# Altium integrated library NSC ADC.IntLib: 493 symbols (part 16 of 17)
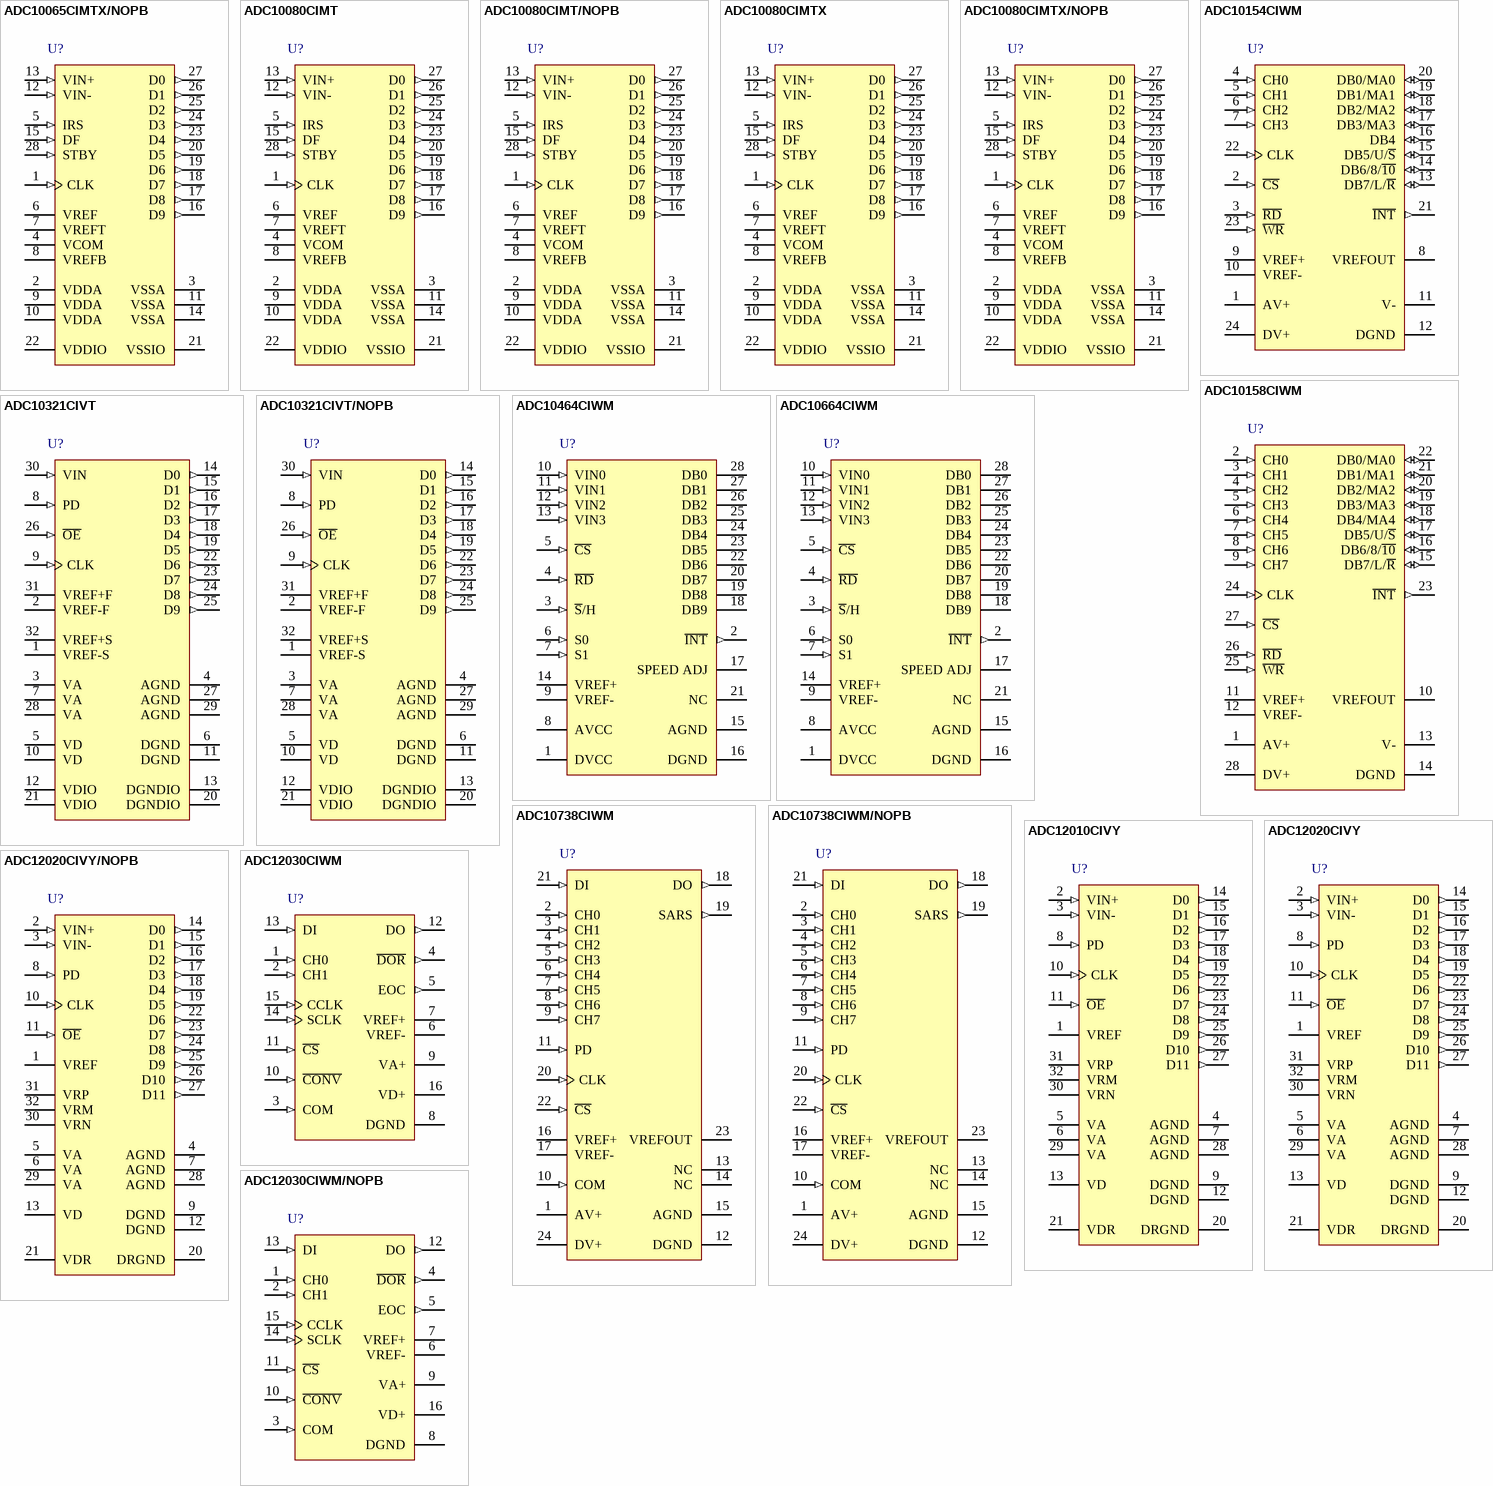
[diagram p51: symbols ADC10065CIMTX/NOPB to ADC12030CIWM/NOPB]

## ADC10738CIWM/NOPB
designator U?
10-Bit Plus Sign Serial I/O A/D Converters with Mux, Sample/Hold and Reference, 24-pin Wide SOIC, Pb-Free; PartNumber: ADC10738CIWM/NOPB; Manufacturer: National Semiconductor; PackageTopMarking: NSUZXYTTE#*ADC10738*CIWM; PowerWise: N; CompType: ADC IC; Published: 1-Mar-2010; DatasheetVersion: Mar-1993; PackageVersion: revF, Apr-1990; PackageReference: M24B; Publisher: Altium Limited; PackageDescription: Molded Package, S.O., .300in Wide, 24 Lead; Supplier 1: Digi-Key; Supplier Part Number 1: ADC10738CIWM-ND; RoHS: Y; PinCount: 24; ComponentLink1Description: ADC10738 Datasheet; ComponentLink1URL: http://www.national.com/ds/AD/ADC10738.pdf; ComponentLink2Description: ADC10738 Web Page; ComponentLink2URL: http://www.national.com/pf/AD/ADC10738.html; ComponentLink3Description: M24B Package Page; ComponentLink3URL: http://www.national.com/packaging/folders/m24b.html
footprint M24B_N (SOIC, 24-Leads, Body 15.4x7.5mm, Pitch 1.27mm, IPC Medium Density)
footprint M24B_L (SOIC, 24-Leads, Body 15.4x7.5mm, Pitch 1.27mm, IPC High Density)
footprint M24B_M (SOIC, 24-Leads, Body 15.4x7.5mm, Pitch 1.27mm, IPC Low Density)
pins: 1 AV+ (power), 2 CH0 (in), 3 CH1 (in), 4 CH2 (in), 5 CH3 (in), 6 CH4 (in), 7 CH5 (in), 8 CH6 (in), 9 CH7 (in), 10 COM (in), 11 PD (in), 12 DGND (power), 13 NC, 14 NC, 15 AGND (power), 16 VREF+ (power), 17 VREF- (power), 18 DO (out), 19 SARS (out), 20 CLK (in), 21 DI (in), 22 ~{CS} (in), 23 VREFOUT (power), 24 DV+ (power)

## ADC12010CIVY
designator U?
12-Bit, 10 MSPS, 160mW A/D Converter with Internal Sample-and-Hold, 32-pin LQFP; PartNumber: ADC12010CIVY; Manufacturer: National Semiconductor; PackageTopMarking: NSUZXYTT*ADC12010*CIVY; PowerWise: N; CompType: ADC IC; Published: 4-Dec-2008; DatasheetVersion: Jul-2008; PackageVersion: revE, Dec-1999; PackageReference: VBE32A; Publisher: Altium Limited; PackageDescription: LQFP, JEDEC, Metric, 7 x 7 x 1.4mm, 32 Lead; Supplier 1: Farnell; Supplier Part Number 1: 1286728; RoHS: N; PinCount: 32; ComponentLink1Description: ADC12010 Datasheet; ComponentLink1URL: http://www.national.com/ds/AD/ADC12010.pdf; ComponentLink2Description: ADC12010 Web Page; ComponentLink2URL: http://www.national.com/pf/AD/ADC12010.html; ComponentLink3Description: VBE32A Package Page; ComponentLink3URL: http://www.national.com/packaging/folders/vbe32a.html
footprint VBE32A_N (Thin QFP, 32-Leads, Body 7x7mm, Pitch 0.8mm, IPC Medium Density)
footprint VBE32A_L (Thin QFP, 32-Leads, Body 7x7mm, Pitch 0.8mm, IPC High Density)
footprint VBE32A_M (Thin QFP, 32-Leads, Body 7x7mm, Pitch 0.8mm, IPC Low Density)
pins: 1 VREF (power), 2 VIN+ (in), 3 VIN- (in), 4 AGND (power), 5 VA (power), 6 VA (power), 7 AGND (power), 8 PD (in), 9 DGND (power), 10 CLK (in), 11 ~{OE} (in), 12 DGND (power), 13 VD (power), 14 D0 (out), 15 D1 (out), 16 D2 (out), 17 D3 (out), 18 D4 (out), 19 D5 (out), 20 DRGND (power), 21 VDR (power), 22 D6 (out), 23 D7 (out), 24 D8 (out), 25 D9 (out), 26 D10 (out), 27 D11 (out), 28 AGND (power), 29 VA (power), 30 VRN, 31 VRP, 32 VRM

## ADC12020CIVY
designator U?
12-Bit, 20 MSPS, 185mW A/D Converter with Internal Sample-and-Hold, 32-pin LQFP; PartNumber: ADC12020CIVY; Manufacturer: National Semiconductor; PackageTopMarking: NSUZXYTT*ADC12020*CIVY; PowerWise: N; CompType: ADC IC; Published: 4-Dec-2008; DatasheetVersion: Jul-2008; PackageVersion: revE, Dec-1999; PackageReference: VBE32A; Publisher: Altium Limited; PackageDescription: LQFP, JEDEC, Metric, 7 x 7 x 1.4mm, 32 Lead; Supplier 1: Digi-Key; Supplier Part Number 1: ADC12020CIVY-ND; Supplier 2: Farnell; Supplier Part Number 2: 1286731; RoHS: N; PinCount: 32; ComponentLink1Description: ADC12020 Datasheet; ComponentLink1URL: http://www.national.com/ds/AD/ADC12020.pdf; ComponentLink2Description: ADC12020 Web Page; ComponentLink2URL: http://www.national.com/pf/AD/ADC12020.html; ComponentLink3Description: VBE32A Package Page; ComponentLink3URL: http://www.national.com/packaging/folders/vbe32a.html
footprint VBE32A_N (Thin QFP, 32-Leads, Body 7x7mm, Pitch 0.8mm, IPC Medium Density)
footprint VBE32A_L (Thin QFP, 32-Leads, Body 7x7mm, Pitch 0.8mm, IPC High Density)
footprint VBE32A_M (Thin QFP, 32-Leads, Body 7x7mm, Pitch 0.8mm, IPC Low Density)
pins: 1 VREF (power), 2 VIN+ (in), 3 VIN- (in), 4 AGND (power), 5 VA (power), 6 VA (power), 7 AGND (power), 8 PD (in), 9 DGND (power), 10 CLK (in), 11 ~{OE} (in), 12 DGND (power), 13 VD (power), 14 D0 (out), 15 D1 (out), 16 D2 (out), 17 D3 (out), 18 D4 (out), 19 D5 (out), 20 DRGND (power), 21 VDR (power), 22 D6 (out), 23 D7 (out), 24 D8 (out), 25 D9 (out), 26 D10 (out), 27 D11 (out), 28 AGND (power), 29 VA (power), 30 VRN, 31 VRP, 32 VRM

## ADC12020CIVY/NOPB
designator U?
12-Bit, 20 MSPS, 185mW A/D Converter with Internal Sample-and-Hold, 32-pin LQFP, Pb-Free; PartNumber: ADC12020CIVY/NOPB; Manufacturer: National Semiconductor; PackageTopMarking: NSUZXYTT*ADC12020*CIVY; PowerWise: N; CompType: ADC IC; Published: 1-Mar-2010; DatasheetVersion: Jul-2008; PackageVersion: revE, Dec-1999; PackageReference: VBE32A; Publisher: Altium Limited; PackageDescription: LQFP, JEDEC, Metric, 7 x 7 x 1.4mm, 32 Lead; Supplier 1: Digi-Key; Supplier Part Number 1: ADC12020CIVY/NOPB-ND; RoHS: Y; PinCount: 32; ComponentLink1Description: ADC12020 Datasheet; ComponentLink1URL: http://www.national.com/ds/AD/ADC12020.pdf; ComponentLink2Description: ADC12020 Web Page; ComponentLink2URL: http://www.national.com/pf/AD/ADC12020.html; ComponentLink3Description: VBE32A Package Page; ComponentLink3URL: http://www.national.com/packaging/folders/vbe32a.html
footprint VBE32A_N (Thin QFP, 32-Leads, Body 7x7mm, Pitch 0.8mm, IPC Medium Density)
footprint VBE32A_L (Thin QFP, 32-Leads, Body 7x7mm, Pitch 0.8mm, IPC High Density)
footprint VBE32A_M (Thin QFP, 32-Leads, Body 7x7mm, Pitch 0.8mm, IPC Low Density)
pins: 1 VREF (power), 2 VIN+ (in), 3 VIN- (in), 4 AGND (power), 5 VA (power), 6 VA (power), 7 AGND (power), 8 PD (in), 9 DGND (power), 10 CLK (in), 11 ~{OE} (in), 12 DGND (power), 13 VD (power), 14 D0 (out), 15 D1 (out), 16 D2 (out), 17 D3 (out), 18 D4 (out), 19 D5 (out), 20 DRGND (power), 21 VDR (power), 22 D6 (out), 23 D7 (out), 24 D8 (out), 25 D9 (out), 26 D10 (out), 27 D11 (out), 28 AGND (power), 29 VA (power), 30 VRN, 31 VRP, 32 VRM

## ADC12030CIWM
designator U?
Self-Calibrating 12-Bit Plus Sign Serial I/O A/D Converters with MUX and Sample/Hold, 16-pin Wide SOIC; PartNumber: ADC12030CIWM; Manufacturer: National Semiconductor; PackageTopMarking: NSUZXYTTE#*ADC12030*CIWM; PowerWise: N; CompType: ADC IC; Published: 4-Dec-2008; DatasheetVersion: Sep-2008; PackageVersion: revF, Apr-1990; PackageReference: M16B; Publisher: Altium Limited; PackageDescription: Molded Package, S.O., .300in Wide, 16 Lead; RoHS: N; PinCount: 16; Code_JEDEC: MS-013-AA; Code_IPC: SOIC127P1030-16; ComponentLink1Description: ADC12030 Datasheet; ComponentLink1URL: http://www.national.com/ds/AD/ADC12030.pdf; ComponentLink2Description: ADC12030 Web Page; ComponentLink2URL: http://www.national.com/pf/AD/ADC12030.html; ComponentLink3Description: M16B Package Page; ComponentLink3URL: http://www.national.com/packaging/folders/m16b.html
footprint M16B_N (SOIC, 16-Leads, Body 10.3x7.5mm, Pitch 1.27mm, IPC Medium Density)
footprint M16B_L (SOIC, 16-Leads, Body 10.3x7.5mm, Pitch 1.27mm, IPC High Density)
footprint M16B_M (SOIC, 16-Leads, Body 10.3x7.5mm, Pitch 1.27mm, IPC Low Density)
pins: 1 CH0 (in), 2 CH1 (in), 3 COM (in), 4 ~{DOR} (out), 5 EOC (out), 6 VREF- (power), 7 VREF+ (power), 8 DGND (power), 9 VA+ (power), 10 ~{CONV} (in), 11 ~{CS} (in), 12 DO (out), 13 DI (in), 14 SCLK (in), 15 CCLK (in), 16 VD+ (power)

## ADC12030CIWM/NOPB
designator U?
Self-Calibrating 12-Bit Plus Sign Serial I/O A/D Converters with MUX and Sample/Hold, 16-pin Wide SOIC, Pb-Free; PartNumber: ADC12030CIWM/NOPB; Manufacturer: National Semiconductor; PackageTopMarking: NSUZXYTTE#*ADC12030*CIWM; PowerWise: N; CompType: ADC IC; Published: 1-Mar-2010; DatasheetVersion: Sep-2008; PackageVersion: revF, Apr-1990; PackageReference: M16B; Publisher: Altium Limited; PackageDescription: Molded Package, S.O., .300in Wide, 16 Lead; Supplier 1: Digi-Key; Supplier Part Number 1: ADC12030CIWM-ND; RoHS: Y; PinCount: 16; Code_JEDEC: MS-013-AA; Code_IPC: SOIC127P1030-16; ComponentLink1Description: ADC12030 Datasheet; ComponentLink1URL: http://www.national.com/ds/AD/ADC12030.pdf; ComponentLink2Description: ADC12030 Web Page; ComponentLink2URL: http://www.national.com/pf/AD/ADC12030.html; ComponentLink3Description: M16B Package Page; ComponentLink3URL: http://www.national.com/packaging/folders/m16b.html
footprint M16B_N (SOIC, 16-Leads, Body 10.3x7.5mm, Pitch 1.27mm, IPC Medium Density)
footprint M16B_L (SOIC, 16-Leads, Body 10.3x7.5mm, Pitch 1.27mm, IPC High Density)
footprint M16B_M (SOIC, 16-Leads, Body 10.3x7.5mm, Pitch 1.27mm, IPC Low Density)
pins: 1 CH0 (in), 2 CH1 (in), 3 COM (in), 4 ~{DOR} (out), 5 EOC (out), 6 VREF- (power), 7 VREF+ (power), 8 DGND (power), 9 VA+ (power), 10 ~{CONV} (in), 11 ~{CS} (in), 12 DO (out), 13 DI (in), 14 SCLK (in), 15 CCLK (in), 16 VD+ (power)

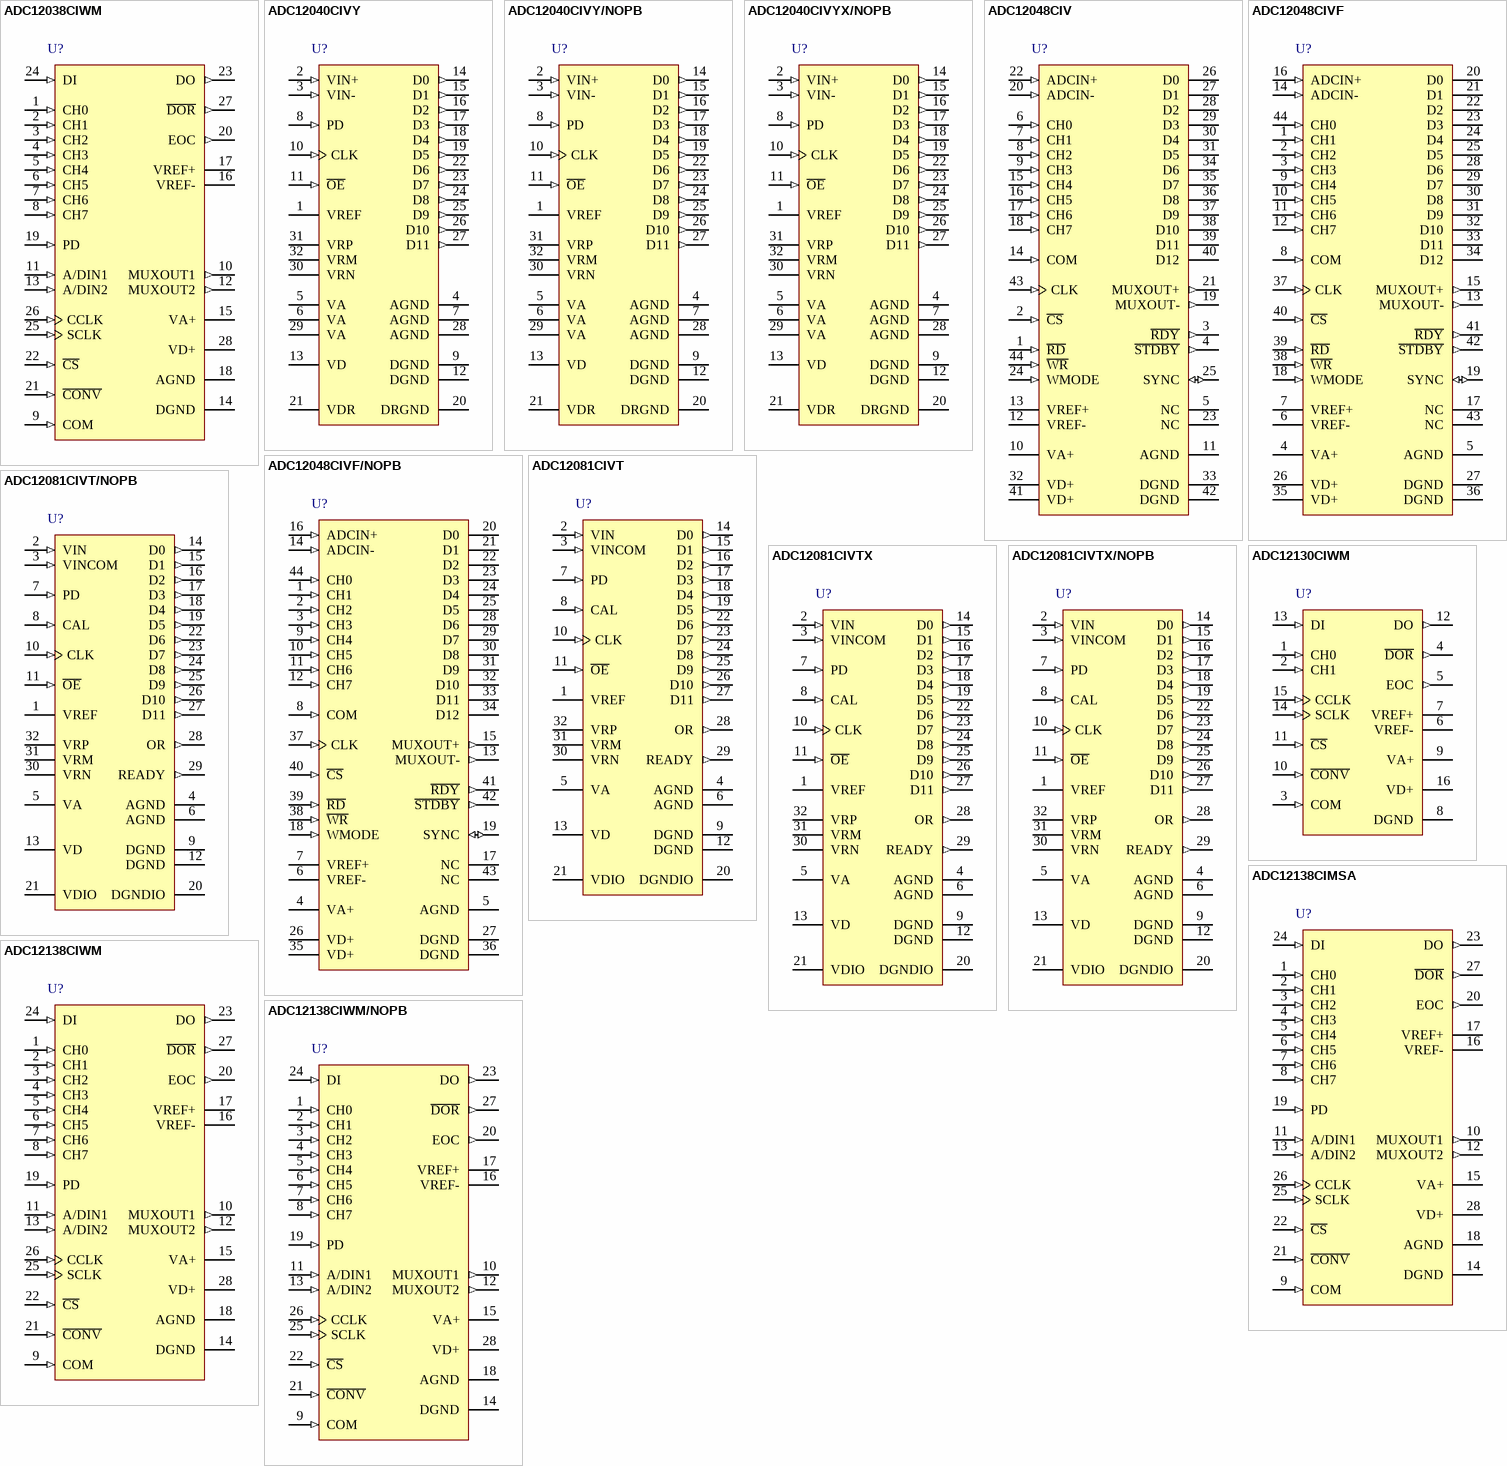
[diagram p33: symbols ADC12038CIWM to ADC12138CIWM/NOPB]

## ADC12038CIWM
designator U?
Self-Calibrating 12-Bit Plus Sign Serial I/O A/D Converters with MUX and Sample/Hold, 28-pin Wide SOIC; PartNumber: ADC12038CIWM; Manufacturer: National Semiconductor; PackageTopMarking: NSUZXYTTE#*ADC12038*CIWM; PowerWise: N; CompType: ADC IC; Published: 4-Dec-2008; LatestRevisionDate: 1-Oct-2010; LatestRevisionNote: Updated datasheet to version Sep-2008.; DatasheetVersion: Sep-2008; PackageVersion: revB, Nov-1997; PackageReference: M28B; Publisher: Altium Limited; PackageDescription: Molded Package, S.O., .300in Wide, 28 Lead; RoHS: N; PinCount: 28; ComponentLink1Description: ADC12038 Datasheet; ComponentLink1URL: http://www.national.com/ds/AD/ADC12038.pdf; ComponentLink2Description: ADC12038 Web Page; ComponentLink2URL: http://www.national.com/pf/AD/ADC12038.html; ComponentLink3Description: M28B Package Page; ComponentLink3URL: http://www.national.com/packaging/folders/m28b.html
footprint M28B_N (SOIC, 28-Leads, Body 17.9x7.5mm, Pitch 1.27mm, IPC Medium Density)
footprint M28B_L (SOIC, 28-Leads, Body 17.9x7.5mm, Pitch 1.27mm, IPC High Density)
footprint M28B_M (SOIC, 28-Leads, Body 17.9x7.5mm, Pitch 1.27mm, IPC Low Density)
pins: 1 CH0 (in), 2 CH1 (in), 3 CH2 (in), 4 CH3 (in), 5 CH4 (in), 6 CH5 (in), 7 CH6 (in), 8 CH7 (in), 9 COM (in), 10 MUXOUT1 (out), 11 A/DIN1 (in), 12 MUXOUT2 (out), 13 A/DIN2 (in), 14 DGND (power), 15 VA+ (power), 16 VREF- (power), 17 VREF+ (power), 18 AGND (power), 19 PD (in), 20 EOC (out), 21 ~{CONV} (in), 22 ~{CS} (in), 23 DO (out), 24 DI (in), 25 SCLK (in), 26 CCLK (in), 27 ~{DOR} (out), 28 VD+ (power)

## ADC12040CIVY
designator U?
12-Bit, 40 MSPS, 340mW A/D Converter with Internal Sample-and-Hold, 32-pin LQFP; PartNumber: ADC12040CIVY; Manufacturer: National Semiconductor; PackageTopMarking: NSUZXYTT*ADC12040*CIVY; PowerWise: N; CompType: ADC IC; Published: 4-Dec-2008; DatasheetVersion: Sep-2008; PackageVersion: revE, Dec-1999; PackageReference: VBE32A; Publisher: Altium Limited; PackageDescription: LQFP, JEDEC, Metric, 7 x 7 x 1.4mm, 32 Lead; RoHS: N; PinCount: 32; ComponentLink1Description: ADC12040 Datasheet; ComponentLink1URL: http://www.national.com/ds/AD/ADC12040.pdf; ComponentLink2Description: ADC12040 Web Page; ComponentLink2URL: http://www.national.com/pf/AD/ADC12040.html; ComponentLink3Description: VBE32A Package Page; ComponentLink3URL: http://www.national.com/packaging/folders/vbe32a.html
footprint VBE32A_N (Thin QFP, 32-Leads, Body 7x7mm, Pitch 0.8mm, IPC Medium Density)
footprint VBE32A_L (Thin QFP, 32-Leads, Body 7x7mm, Pitch 0.8mm, IPC High Density)
footprint VBE32A_M (Thin QFP, 32-Leads, Body 7x7mm, Pitch 0.8mm, IPC Low Density)
pins: 1 VREF (power), 2 VIN+ (in), 3 VIN- (in), 4 AGND (power), 5 VA (power), 6 VA (power), 7 AGND (power), 8 PD (in), 9 DGND (power), 10 CLK (in), 11 ~{OE} (in), 12 DGND (power), 13 VD (power), 14 D0 (out), 15 D1 (out), 16 D2 (out), 17 D3 (out), 18 D4 (out), 19 D5 (out), 20 DRGND (power), 21 VDR (power), 22 D6 (out), 23 D7 (out), 24 D8 (out), 25 D9 (out), 26 D10 (out), 27 D11 (out), 28 AGND (power), 29 VA (power), 30 VRN, 31 VRP, 32 VRM

## ADC12040CIVY/NOPB
designator U?
12-Bit, 40 MSPS, 340mW A/D Converter with Internal Sample-and-Hold, 32-pin LQFP, Pb-Free; PartNumber: ADC12040CIVY/NOPB; Manufacturer: National Semiconductor; PackageTopMarking: NSUZXYTT*ADC12040*CIVY; PowerWise: N; CompType: ADC IC; Published: 1-Mar-2010; DatasheetVersion: Sep-2008; PackageVersion: revE, Dec-1999; PackageReference: VBE32A; Publisher: Altium Limited; PackageDescription: LQFP, JEDEC, Metric, 7 x 7 x 1.4mm, 32 Lead; Supplier 1: Digi-Key; Supplier Part Number 1: ADC12040CIVY-ND; RoHS: Y; PinCount: 32; ComponentLink1Description: ADC12040 Datasheet; ComponentLink1URL: http://www.national.com/ds/AD/ADC12040.pdf; ComponentLink2Description: ADC12040 Web Page; ComponentLink2URL: http://www.national.com/pf/AD/ADC12040.html; ComponentLink3Description: VBE32A Package Page; ComponentLink3URL: http://www.national.com/packaging/folders/vbe32a.html
footprint VBE32A_N (Thin QFP, 32-Leads, Body 7x7mm, Pitch 0.8mm, IPC Medium Density)
footprint VBE32A_L (Thin QFP, 32-Leads, Body 7x7mm, Pitch 0.8mm, IPC High Density)
footprint VBE32A_M (Thin QFP, 32-Leads, Body 7x7mm, Pitch 0.8mm, IPC Low Density)
pins: 1 VREF (power), 2 VIN+ (in), 3 VIN- (in), 4 AGND (power), 5 VA (power), 6 VA (power), 7 AGND (power), 8 PD (in), 9 DGND (power), 10 CLK (in), 11 ~{OE} (in), 12 DGND (power), 13 VD (power), 14 D0 (out), 15 D1 (out), 16 D2 (out), 17 D3 (out), 18 D4 (out), 19 D5 (out), 20 DRGND (power), 21 VDR (power), 22 D6 (out), 23 D7 (out), 24 D8 (out), 25 D9 (out), 26 D10 (out), 27 D11 (out), 28 AGND (power), 29 VA (power), 30 VRN, 31 VRP, 32 VRM

## ADC12040CIVYX/NOPB
designator U?
12-Bit, 40 MSPS, 340mW A/D Converter with Internal Sample-and-Hold, 32-pin LQFP, Pb-Free; PartNumber: ADC12040CIVYX/NOPB; Manufacturer: National Semiconductor; PackageTopMarking: NSUZXYTT*ADC12040*CIVY; PowerWise: N; CompType: ADC IC; Published: 1-Mar-2010; DatasheetVersion: Sep-2008; PackageVersion: revE, Dec-1999; PackageReference: VBE32A; Publisher: Altium Limited; PackageDescription: LQFP, JEDEC, Metric, 7 x 7 x 1.4mm, 32 Lead; Supplier 1: Digi-Key; Supplier Part Number 1: ADC12040CIVYX-ND; RoHS: Y; PinCount: 32; ComponentLink1Description: ADC12040 Datasheet; ComponentLink1URL: http://www.national.com/ds/AD/ADC12040.pdf; ComponentLink2Description: ADC12040 Web Page; ComponentLink2URL: http://www.national.com/pf/AD/ADC12040.html; ComponentLink3Description: VBE32A Package Page; ComponentLink3URL: http://www.national.com/packaging/folders/vbe32a.html
footprint VBE32A_N (Thin QFP, 32-Leads, Body 7x7mm, Pitch 0.8mm, IPC Medium Density)
footprint VBE32A_L (Thin QFP, 32-Leads, Body 7x7mm, Pitch 0.8mm, IPC High Density)
footprint VBE32A_M (Thin QFP, 32-Leads, Body 7x7mm, Pitch 0.8mm, IPC Low Density)
pins: 1 VREF (power), 2 VIN+ (in), 3 VIN- (in), 4 AGND (power), 5 VA (power), 6 VA (power), 7 AGND (power), 8 PD (in), 9 DGND (power), 10 CLK (in), 11 ~{OE} (in), 12 DGND (power), 13 VD (power), 14 D0 (out), 15 D1 (out), 16 D2 (out), 17 D3 (out), 18 D4 (out), 19 D5 (out), 20 DRGND (power), 21 VDR (power), 22 D6 (out), 23 D7 (out), 24 D8 (out), 25 D9 (out), 26 D10 (out), 27 D11 (out), 28 AGND (power), 29 VA (power), 30 VRN, 31 VRP, 32 VRM

## ADC12048CIV
designator U?
12-Bit Plus Sign 216 kHz 8 Channel Sampling Analog to Digital Converter, 44-pin PLCC; PartNumber: ADC12048CIV; Manufacturer: National Semiconductor; PackageTopMarking: NSUZXYYTTE#*ADC12048CIV; PowerWise: N; CompType: ADC IC; Published: 4-Dec-2008; DatasheetVersion: Feb-1999; PackageVersion: revK, Dec-1993; PackageReference: V44A; Publisher: Altium Limited; PackageDescription: Plastic Chip Carrier, Sq, .050in Pitch, 44 Lead; RoHS: N; PinCount: 44; Code_IPC: PLCC-44; ComponentLink1Description: ADC12048 Datasheet; ComponentLink1URL: http://www.national.com/ds/AD/ADC12048.pdf; ComponentLink2Description: ADC12048 Web Page; ComponentLink2URL: http://www.national.com/pf/AD/ADC12048.html; ComponentLink3Description: V44A Package Page; ComponentLink3URL: http://www.national.com/packaging/folders/v44a.html
footprint V44A_N (Leaded Chip Carrier, 44-Leads, Body 16.6x16.6mm, Pitch 1.27mm, IPC Medium Density)
footprint V44A_L (Leaded Chip Carrier, 44-Leads, Body 16.6x16.6mm, Pitch 1.27mm, IPC High Density)
footprint V44A_M (Leaded Chip Carrier, 44-Leads, Body 16.6x16.6mm, Pitch 1.27mm, IPC Low Density)
pins: 1 ~{RD} (in), 2 ~{CS} (in), 3 ~{RDY} (out), 4 ~{STDBY} (out), 5 NC, 6 CH0 (in), 7 CH1 (in), 8 CH2 (in), 9 CH3 (in), 10 VA+ (power), 11 AGND (power), 12 VREF- (power), 13 VREF+ (power), 14 COM (in), 15 CH4 (in), 16 CH5 (in), 17 CH6 (in), 18 CH7 (in), 19 MUXOUT- (out), 20 ADCIN- (in), 21 MUXOUT+ (out), 22 ADCIN+ (in), 23 NC, 24 WMODE (in), 25 SYNC (io), 26 D0 (hiz), 27 D1 (hiz), 28 D2 (hiz), 29 D3 (hiz), 30 D4 (hiz), 31 D5 (hiz), 32 VD+ (power), 33 DGND (power), 34 D6 (hiz), 35 D7 (hiz), 36 D8 (hiz), 37 D9 (hiz), 38 D10 (hiz), 39 D11 (hiz), 40 D12 (hiz), 41 VD+ (power), 42 DGND (power), 43 CLK (in), 44 ~{WR} (in)

## ADC12048CIVF
designator U?
12-Bit Plus Sign 216 kHz 8 Channel Sampling Analog to Digital Converter, 44-pin PQFP; PartNumber: ADC12048CIVF; Manufacturer: National Semiconductor; PackageTopMarking: NSUZXYYTTE#*ADC12048*CIVF*DIE RUN# =; PowerWise: N; CompType: ADC IC; Published: 4-Dec-2008; DatasheetVersion: Feb-1999; PackageVersion: revE, Feb-2003; PackageReference: VGZ44A; Publisher: Altium Limited; PackageDescription: PQFP, Jedec Metric, (S), 10 x 10 x 2.0mm Body, 44 Lead; RoHS: N; PinCount: 44; Code_JEDEC: MO-108-AA-1; Code_IPC: QFP80P1320X1320-44; ComponentLink1Description: ADC12048 Datasheet; ComponentLink1URL: http://www.national.com/ds/AD/ADC12048.pdf; ComponentLink2Description: ADC12048 Web Page; ComponentLink2URL: http://www.national.com/pf/AD/ADC12048.html; ComponentLink3Description: VGZ44A Package Page; ComponentLink3URL: http://www.national.com/packaging/folders/vgz44a.html
footprint VGZ44A_N (QFP, 44-Leads, Body 10x10mm, Pitch 0.8mm, IPC Medium Density)
footprint VGZ44A_L (QFP, 44-Leads, Body 10x10mm, Pitch 0.8mm, IPC High Density)
footprint VGZ44A_M (QFP, 44-Leads, Body 10x10mm, Pitch 0.8mm, IPC Low Density)
pins: 1 CH1 (in), 2 CH2 (in), 3 CH3 (in), 4 VA+ (power), 5 AGND (power), 6 VREF- (power), 7 VREF+ (power), 8 COM (in), 9 CH4 (in), 10 CH5 (in), 11 CH6 (in), 12 CH7 (in), 13 MUXOUT- (out), 14 ADCIN- (in), 15 MUXOUT+ (out), 16 ADCIN+ (in), 17 NC, 18 WMODE (in), 19 SYNC (io), 20 D0 (hiz), 21 D1 (hiz), 22 D2 (hiz), 23 D3 (hiz), 24 D4 (hiz), 25 D5 (hiz), 26 VD+ (power), 27 DGND (power), 28 D6 (hiz), 29 D7 (hiz), 30 D8 (hiz), 31 D9 (hiz), 32 D10 (hiz), 33 D11 (hiz), 34 D12 (hiz), 35 VD+ (power), 36 DGND (power), 37 CLK (in), 38 ~{WR} (in), 39 ~{RD} (in), 40 ~{CS} (in), 41 ~{RDY} (out), 42 ~{STDBY} (out), 43 NC, 44 CH0 (in)

## ADC12048CIVF/NOPB
designator U?
12-Bit Plus Sign 216 kHz 8 Channel Sampling Analog to Digital Converter, 44-pin PQFP, Pb-Free; PartNumber: ADC12048CIVF/NOPB; Manufacturer: National Semiconductor; PackageTopMarking: NSUZXYYTTE#*ADC12048*CIVF*DIE RUN# =; PowerWise: N; CompType: ADC IC; Published: 1-Mar-2010; DatasheetVersion: Feb-1999; PackageVersion: revE, Feb-2003; PackageReference: VGZ44A; Publisher: Altium Limited; PackageDescription: PQFP, Jedec Metric, (S), 10 x 10 x 2.0mm Body, 44 Lead; Supplier 1: Digi-Key; Supplier Part Number 1: ADC12048CIVF-ND; Supplier 2: Farnell; Supplier Part Number 2: 1673951; RoHS: Y; PinCount: 44; Code_JEDEC: MO-108-AA-1; Code_IPC: QFP80P1320X1320-44; ComponentLink1Description: ADC12048 Datasheet; ComponentLink1URL: http://www.national.com/ds/AD/ADC12048.pdf; ComponentLink2Description: ADC12048 Web Page; ComponentLink2URL: http://www.national.com/pf/AD/ADC12048.html; ComponentLink3Description: VGZ44A Package Page; ComponentLink3URL: http://www.national.com/packaging/folders/vgz44a.html
footprint VGZ44A_N (QFP, 44-Leads, Body 10x10mm, Pitch 0.8mm, IPC Medium Density)
footprint VGZ44A_L (QFP, 44-Leads, Body 10x10mm, Pitch 0.8mm, IPC High Density)
footprint VGZ44A_M (QFP, 44-Leads, Body 10x10mm, Pitch 0.8mm, IPC Low Density)
pins: 1 CH1 (in), 2 CH2 (in), 3 CH3 (in), 4 VA+ (power), 5 AGND (power), 6 VREF- (power), 7 VREF+ (power), 8 COM (in), 9 CH4 (in), 10 CH5 (in), 11 CH6 (in), 12 CH7 (in), 13 MUXOUT- (out), 14 ADCIN- (in), 15 MUXOUT+ (out), 16 ADCIN+ (in), 17 NC, 18 WMODE (in), 19 SYNC (io), 20 D0 (hiz), 21 D1 (hiz), 22 D2 (hiz), 23 D3 (hiz), 24 D4 (hiz), 25 D5 (hiz), 26 VD+ (power), 27 DGND (power), 28 D6 (hiz), 29 D7 (hiz), 30 D8 (hiz), 31 D9 (hiz), 32 D10 (hiz), 33 D11 (hiz), 34 D12 (hiz), 35 VD+ (power), 36 DGND (power), 37 CLK (in), 38 ~{WR} (in), 39 ~{RD} (in), 40 ~{CS} (in), 41 ~{RDY} (out), 42 ~{STDBY} (out), 43 NC, 44 CH0 (in)

## ADC12081CIVT
designator U?
12-Bit, 5 MHz Self-Calibrating, Pipelined A/D Converter with Internal Sample & Hold, 32-pin LQFP; PartNumber: ADC12081CIVT; Manufacturer: National Semiconductor; PackageTopMarking: NSUZXYTT*ADC12081*CIVT; PowerWise: N; CompType: ADC IC; Published: 4-Dec-2008; DatasheetVersion: Jan-2004; PackageVersion: revE, Dec-1999; PackageReference: VBE32A; Publisher: Altium Limited; PackageDescription: LQFP, JEDEC, Metric, 7 x 7 x 1.4mm, 32 Lead; RoHS: N; PinCount: 32; ComponentLink1Description: ADC12081 Datasheet; ComponentLink1URL: http://www.national.com/ds/AD/ADC12081.pdf; ComponentLink2Description: ADC12081 Web Page; ComponentLink2URL: http://www.national.com/pf/AD/ADC12081.html; ComponentLink3Description: VBE32A Package Page; ComponentLink3URL: http://www.national.com/packaging/folders/vbe32a.html
footprint VBE32A_N (Thin QFP, 32-Leads, Body 7x7mm, Pitch 0.8mm, IPC Medium Density)
footprint VBE32A_L (Thin QFP, 32-Leads, Body 7x7mm, Pitch 0.8mm, IPC High Density)
footprint VBE32A_M (Thin QFP, 32-Leads, Body 7x7mm, Pitch 0.8mm, IPC Low Density)
pins: 1 VREF (power), 2 VIN (in), 3 VINCOM (in), 4 AGND (power), 5 VA (power), 6 AGND (power), 7 PD (in), 8 CAL (in), 9 DGND (power), 10 CLK (in), 11 ~{OE} (in), 12 DGND (power), 13 VD (power), 14 D0 (out), 15 D1 (out), 16 D2 (out), 17 D3 (out), 18 D4 (out), 19 D5 (out), 20 DGNDIO (power), 21 VDIO (power), 22 D6 (out), 23 D7 (out), 24 D8 (out), 25 D9 (out), 26 D10 (out), 27 D11 (out), 28 OR (out), 29 READY (out), 30 VRN, 31 VRM, 32 VRP

## ADC12081CIVT/NOPB
designator U?
12-Bit, 5 MHz Self-Calibrating, Pipelined A/D Converter with Internal Sample & Hold, 32-pin LQFP, Pb-Free; PartNumber: ADC12081CIVT/NOPB; Manufacturer: National Semiconductor; PackageTopMarking: NSUZXYTT*ADC12081*CIVT; PowerWise: N; CompType: ADC IC; Published: 1-Mar-2010; DatasheetVersion: Jan-2004; PackageVersion: revE, Dec-1999; PackageReference: VBE32A; Publisher: Altium Limited; PackageDescription: LQFP, JEDEC, Metric, 7 x 7 x 1.4mm, 32 Lead; Supplier 1: Digi-Key; Supplier Part Number 1: ADC12081CIVT-ND; RoHS: Y; PinCount: 32; ComponentLink1Description: ADC12081 Datasheet; ComponentLink1URL: http://www.national.com/ds/AD/ADC12081.pdf; ComponentLink2Description: ADC12081 Web Page; ComponentLink2URL: http://www.national.com/pf/AD/ADC12081.html; ComponentLink3Description: VBE32A Package Page; ComponentLink3URL: http://www.national.com/packaging/folders/vbe32a.html
footprint VBE32A_N (Thin QFP, 32-Leads, Body 7x7mm, Pitch 0.8mm, IPC Medium Density)
footprint VBE32A_L (Thin QFP, 32-Leads, Body 7x7mm, Pitch 0.8mm, IPC High Density)
footprint VBE32A_M (Thin QFP, 32-Leads, Body 7x7mm, Pitch 0.8mm, IPC Low Density)
pins: 1 VREF (power), 2 VIN (in), 3 VINCOM (in), 4 AGND (power), 5 VA (power), 6 AGND (power), 7 PD (in), 8 CAL (in), 9 DGND (power), 10 CLK (in), 11 ~{OE} (in), 12 DGND (power), 13 VD (power), 14 D0 (out), 15 D1 (out), 16 D2 (out), 17 D3 (out), 18 D4 (out), 19 D5 (out), 20 DGNDIO (power), 21 VDIO (power), 22 D6 (out), 23 D7 (out), 24 D8 (out), 25 D9 (out), 26 D10 (out), 27 D11 (out), 28 OR (out), 29 READY (out), 30 VRN, 31 VRM, 32 VRP

## ADC12081CIVTX
designator U?
12-Bit, 5 MHz Self-Calibrating, Pipelined A/D Converter with Internal Sample & Hold, 32-pin LQFP; PartNumber: ADC12081CIVTX; Manufacturer: National Semiconductor; PackageTopMarking: NSUZXYTT*ADC12081*CIVT; PowerWise: N; CompType: ADC IC; Published: 1-Mar-2010; DatasheetVersion: Jan-2004; PackageVersion: revE, Dec-1999; PackageReference: VBE32A; Publisher: Altium Limited; PackageDescription: LQFP, JEDEC, Metric, 7 x 7 x 1.4mm, 32 Lead; RoHS: N; PinCount: 32; ComponentLink1Description: ADC12081 Datasheet; ComponentLink1URL: http://www.national.com/ds/AD/ADC12081.pdf; ComponentLink2Description: ADC12081 Web Page; ComponentLink2URL: http://www.national.com/pf/AD/ADC12081.html; ComponentLink3Description: VBE32A Package Page; ComponentLink3URL: http://www.national.com/packaging/folders/vbe32a.html
footprint VBE32A_N (Thin QFP, 32-Leads, Body 7x7mm, Pitch 0.8mm, IPC Medium Density)
footprint VBE32A_L (Thin QFP, 32-Leads, Body 7x7mm, Pitch 0.8mm, IPC High Density)
footprint VBE32A_M (Thin QFP, 32-Leads, Body 7x7mm, Pitch 0.8mm, IPC Low Density)
pins: 1 VREF (power), 2 VIN (in), 3 VINCOM (in), 4 AGND (power), 5 VA (power), 6 AGND (power), 7 PD (in), 8 CAL (in), 9 DGND (power), 10 CLK (in), 11 ~{OE} (in), 12 DGND (power), 13 VD (power), 14 D0 (out), 15 D1 (out), 16 D2 (out), 17 D3 (out), 18 D4 (out), 19 D5 (out), 20 DGNDIO (power), 21 VDIO (power), 22 D6 (out), 23 D7 (out), 24 D8 (out), 25 D9 (out), 26 D10 (out), 27 D11 (out), 28 OR (out), 29 READY (out), 30 VRN, 31 VRM, 32 VRP

## ADC12081CIVTX/NOPB
designator U?
12-Bit, 5 MHz Self-Calibrating, Pipelined A/D Converter with Internal Sample & Hold, 32-pin LQFP, Pb-Free; PartNumber: ADC12081CIVTX/NOPB; Manufacturer: National Semiconductor; PackageTopMarking: NSUZXYTT*ADC12081*CIVT; PowerWise: N; CompType: ADC IC; Published: 1-Mar-2010; DatasheetVersion: Jan-2004; PackageVersion: revE, Dec-1999; PackageReference: VBE32A; Publisher: Altium Limited; PackageDescription: LQFP, JEDEC, Metric, 7 x 7 x 1.4mm, 32 Lead; Supplier 1: Digi-Key; Supplier Part Number 1: ADC12081CIVTX-ND; RoHS: Y; PinCount: 32; ComponentLink1Description: ADC12081 Datasheet; ComponentLink1URL: http://www.national.com/ds/AD/ADC12081.pdf; ComponentLink2Description: ADC12081 Web Page; ComponentLink2URL: http://www.national.com/pf/AD/ADC12081.html; ComponentLink3Description: VBE32A Package Page; ComponentLink3URL: http://www.national.com/packaging/folders/vbe32a.html
footprint VBE32A_N (Thin QFP, 32-Leads, Body 7x7mm, Pitch 0.8mm, IPC Medium Density)
footprint VBE32A_L (Thin QFP, 32-Leads, Body 7x7mm, Pitch 0.8mm, IPC High Density)
footprint VBE32A_M (Thin QFP, 32-Leads, Body 7x7mm, Pitch 0.8mm, IPC Low Density)
pins: 1 VREF (power), 2 VIN (in), 3 VINCOM (in), 4 AGND (power), 5 VA (power), 6 AGND (power), 7 PD (in), 8 CAL (in), 9 DGND (power), 10 CLK (in), 11 ~{OE} (in), 12 DGND (power), 13 VD (power), 14 D0 (out), 15 D1 (out), 16 D2 (out), 17 D3 (out), 18 D4 (out), 19 D5 (out), 20 DGNDIO (power), 21 VDIO (power), 22 D6 (out), 23 D7 (out), 24 D8 (out), 25 D9 (out), 26 D10 (out), 27 D11 (out), 28 OR (out), 29 READY (out), 30 VRN, 31 VRM, 32 VRP

## ADC12130CIWM
designator U?
Self-Calibrating 12-Bit Plus Sign Serial I/O A/D Converter with MUX and Sample/Hold, 16-pin Wide SOIC; PartNumber: ADC12130CIWM; Manufacturer: National Semiconductor; PackageTopMarking: NSUZXYTTE#*ADC12130*CIWM; PowerWise: N; CompType: ADC IC; Published: 4-Dec-2008; DatasheetVersion: Apr-1995; PackageVersion: revF, Apr-1990; PackageReference: M16B; Publisher: Altium Limited; PackageDescription: Molded Package, S.O., .300in Wide, 16 Lead; RoHS: N; PinCount: 16; Code_JEDEC: MS-013-AA; Code_IPC: SOIC127P1030-16; ComponentLink1Description: ADC12130 Datasheet; ComponentLink1URL: http://www.national.com/ds/AD/ADC12130.pdf; ComponentLink2Description: ADC12130 Web Page; ComponentLink2URL: http://www.national.com/pf/AD/ADC12130.html; ComponentLink3Description: M16B Package Page; ComponentLink3URL: http://www.national.com/packaging/folders/m16b.html
footprint M16B_N (SOIC, 16-Leads, Body 10.3x7.5mm, Pitch 1.27mm, IPC Medium Density)
footprint M16B_L (SOIC, 16-Leads, Body 10.3x7.5mm, Pitch 1.27mm, IPC High Density)
footprint M16B_M (SOIC, 16-Leads, Body 10.3x7.5mm, Pitch 1.27mm, IPC Low Density)
pins: 1 CH0 (in), 2 CH1 (in), 3 COM (in), 4 ~{DOR} (out), 5 EOC (out), 6 VREF- (power), 7 VREF+ (power), 8 DGND (power), 9 VA+ (power), 10 ~{CONV} (in), 11 ~{CS} (in), 12 DO (out), 13 DI (in), 14 SCLK (in), 15 CCLK (in), 16 VD+ (power)

## ADC12138CIMSA
designator U?
Self-Calibrating 12-Bit Plus Sign Serial I/O A/D Converter with MUX and Sample/Hold, 28-pin SSOP-EIAJ; PartNumber: ADC12138CIMSA; Manufacturer: National Semiconductor; PackageTopMarking: NSUZXYTTE#*ADC12138*CIMSA; PowerWise: N; CompType: ADC IC; Published: 4-Dec-2008; DatasheetVersion: Apr-1995; PackageVersion: revC, Oct-2009; PackageReference: MSA28; Publisher: Altium Limited; PackageDescription: Molded SSOP, 5.3mm Body Width, 0.65mm Pitch, EIAJ, Type II, 28 Lead; RoHS: N; PinCount: 28; Code_IPC: SOP65P780-28; ComponentLink1Description: ADC12138 Datasheet; ComponentLink1URL: http://www.national.com/ds/AD/ADC12138.pdf; ComponentLink2Description: ADC12138 Web Page; ComponentLink2URL: http://www.national.com/pf/AD/ADC12138.html; ComponentLink3Description: MSA28 Package Page; ComponentLink3URL: http://www.national.com/packaging/folders/msa28.html
footprint MSA28_N (SOP, 28-Leads, Body 10.2x5.3mm, Pitch 0.65mm, IPC Medium Density)
footprint MSA28_L (SOP, 28-Leads, Body 10.2x5.3mm, Pitch 0.65mm, IPC High Density)
footprint MSA28_M (SOP, 28-Leads, Body 10.2x5.3mm, Pitch 0.65mm, IPC Low Density)
pins: 1 CH0 (in), 2 CH1 (in), 3 CH2 (in), 4 CH3 (in), 5 CH4 (in), 6 CH5 (in), 7 CH6 (in), 8 CH7 (in), 9 COM (in), 10 MUXOUT1 (out), 11 A/DIN1 (in), 12 MUXOUT2 (out), 13 A/DIN2 (in), 14 DGND (power), 15 VA+ (power), 16 VREF- (power), 17 VREF+ (power), 18 AGND (power), 19 PD (in), 20 EOC (out), 21 ~{CONV} (in), 22 ~{CS} (in), 23 DO (out), 24 DI (in), 25 SCLK (in), 26 CCLK (in), 27 ~{DOR} (out), 28 VD+ (power)

## ADC12138CIWM
designator U?
Self-Calibrating 12-Bit Plus Sign Serial I/O A/D Converter with MUX and Sample/Hold, 28-pin Wide SOIC; PartNumber: ADC12138CIWM; Manufacturer: National Semiconductor; PackageTopMarking: NSUZXYTTE#*ADC12138*CIWM; PowerWise: N; CompType: ADC IC; Published: 4-Dec-2008; DatasheetVersion: Apr-1995; PackageVersion: revB, Nov-1997; PackageReference: M28B; Publisher: Altium Limited; PackageDescription: Molded Package, S.O., .300in Wide, 28 Lead; Supplier 1: Farnell; Supplier Part Number 1: 1798306; RoHS: N; PinCount: 28; ComponentLink1Description: ADC12138 Datasheet; ComponentLink1URL: http://www.national.com/ds/AD/ADC12138.pdf; ComponentLink2Description: ADC12138 Web Page; ComponentLink2URL: http://www.national.com/pf/AD/ADC12138.html; ComponentLink3Description: M28B Package Page; ComponentLink3URL: http://www.national.com/packaging/folders/m28b.html
footprint M28B_N (SOIC, 28-Leads, Body 17.9x7.5mm, Pitch 1.27mm, IPC Medium Density)
footprint M28B_L (SOIC, 28-Leads, Body 17.9x7.5mm, Pitch 1.27mm, IPC High Density)
footprint M28B_M (SOIC, 28-Leads, Body 17.9x7.5mm, Pitch 1.27mm, IPC Low Density)
pins: 1 CH0 (in), 2 CH1 (in), 3 CH2 (in), 4 CH3 (in), 5 CH4 (in), 6 CH5 (in), 7 CH6 (in), 8 CH7 (in), 9 COM (in), 10 MUXOUT1 (out), 11 A/DIN1 (in), 12 MUXOUT2 (out), 13 A/DIN2 (in), 14 DGND (power), 15 VA+ (power), 16 VREF- (power), 17 VREF+ (power), 18 AGND (power), 19 PD (in), 20 EOC (out), 21 ~{CONV} (in), 22 ~{CS} (in), 23 DO (out), 24 DI (in), 25 SCLK (in), 26 CCLK (in), 27 ~{DOR} (out), 28 VD+ (power)

## ADC12138CIWM/NOPB
designator U?
Self-Calibrating 12-Bit Plus Sign Serial I/O A/D Converter with MUX and Sample/Hold, 28-pin Wide SOIC, Pb-Free; PartNumber: ADC12138CIWM/NOPB; Manufacturer: National Semiconductor; PackageTopMarking: NSUZXYTTE#*ADC12138*CIWM; PowerWise: N; CompType: ADC IC; Published: 1-Mar-2010; DatasheetVersion: Apr-1995; PackageVersion: revB, Nov-1997; PackageReference: M28B; Publisher: Altium Limited; PackageDescription: Molded Package, S.O., .300in Wide, 28 Lead; Supplier 1: Digi-Key; Supplier Part Number 1: ADC12138CIWM-ND; RoHS: Y; PinCount: 28; ComponentLink1Description: ADC12138 Datasheet; ComponentLink1URL: http://www.national.com/ds/AD/ADC12138.pdf; ComponentLink2Description: ADC12138 Web Page; ComponentLink2URL: http://www.national.com/pf/AD/ADC12138.html; ComponentLink3Description: M28B Package Page; ComponentLink3URL: http://www.national.com/packaging/folders/m28b.html
footprint M28B_N (SOIC, 28-Leads, Body 17.9x7.5mm, Pitch 1.27mm, IPC Medium Density)
footprint M28B_L (SOIC, 28-Leads, Body 17.9x7.5mm, Pitch 1.27mm, IPC High Density)
footprint M28B_M (SOIC, 28-Leads, Body 17.9x7.5mm, Pitch 1.27mm, IPC Low Density)
pins: 1 CH0 (in), 2 CH1 (in), 3 CH2 (in), 4 CH3 (in), 5 CH4 (in), 6 CH5 (in), 7 CH6 (in), 8 CH7 (in), 9 COM (in), 10 MUXOUT1 (out), 11 A/DIN1 (in), 12 MUXOUT2 (out), 13 A/DIN2 (in), 14 DGND (power), 15 VA+ (power), 16 VREF- (power), 17 VREF+ (power), 18 AGND (power), 19 PD (in), 20 EOC (out), 21 ~{CONV} (in), 22 ~{CS} (in), 23 DO (out), 24 DI (in), 25 SCLK (in), 26 CCLK (in), 27 ~{DOR} (out), 28 VD+ (power)

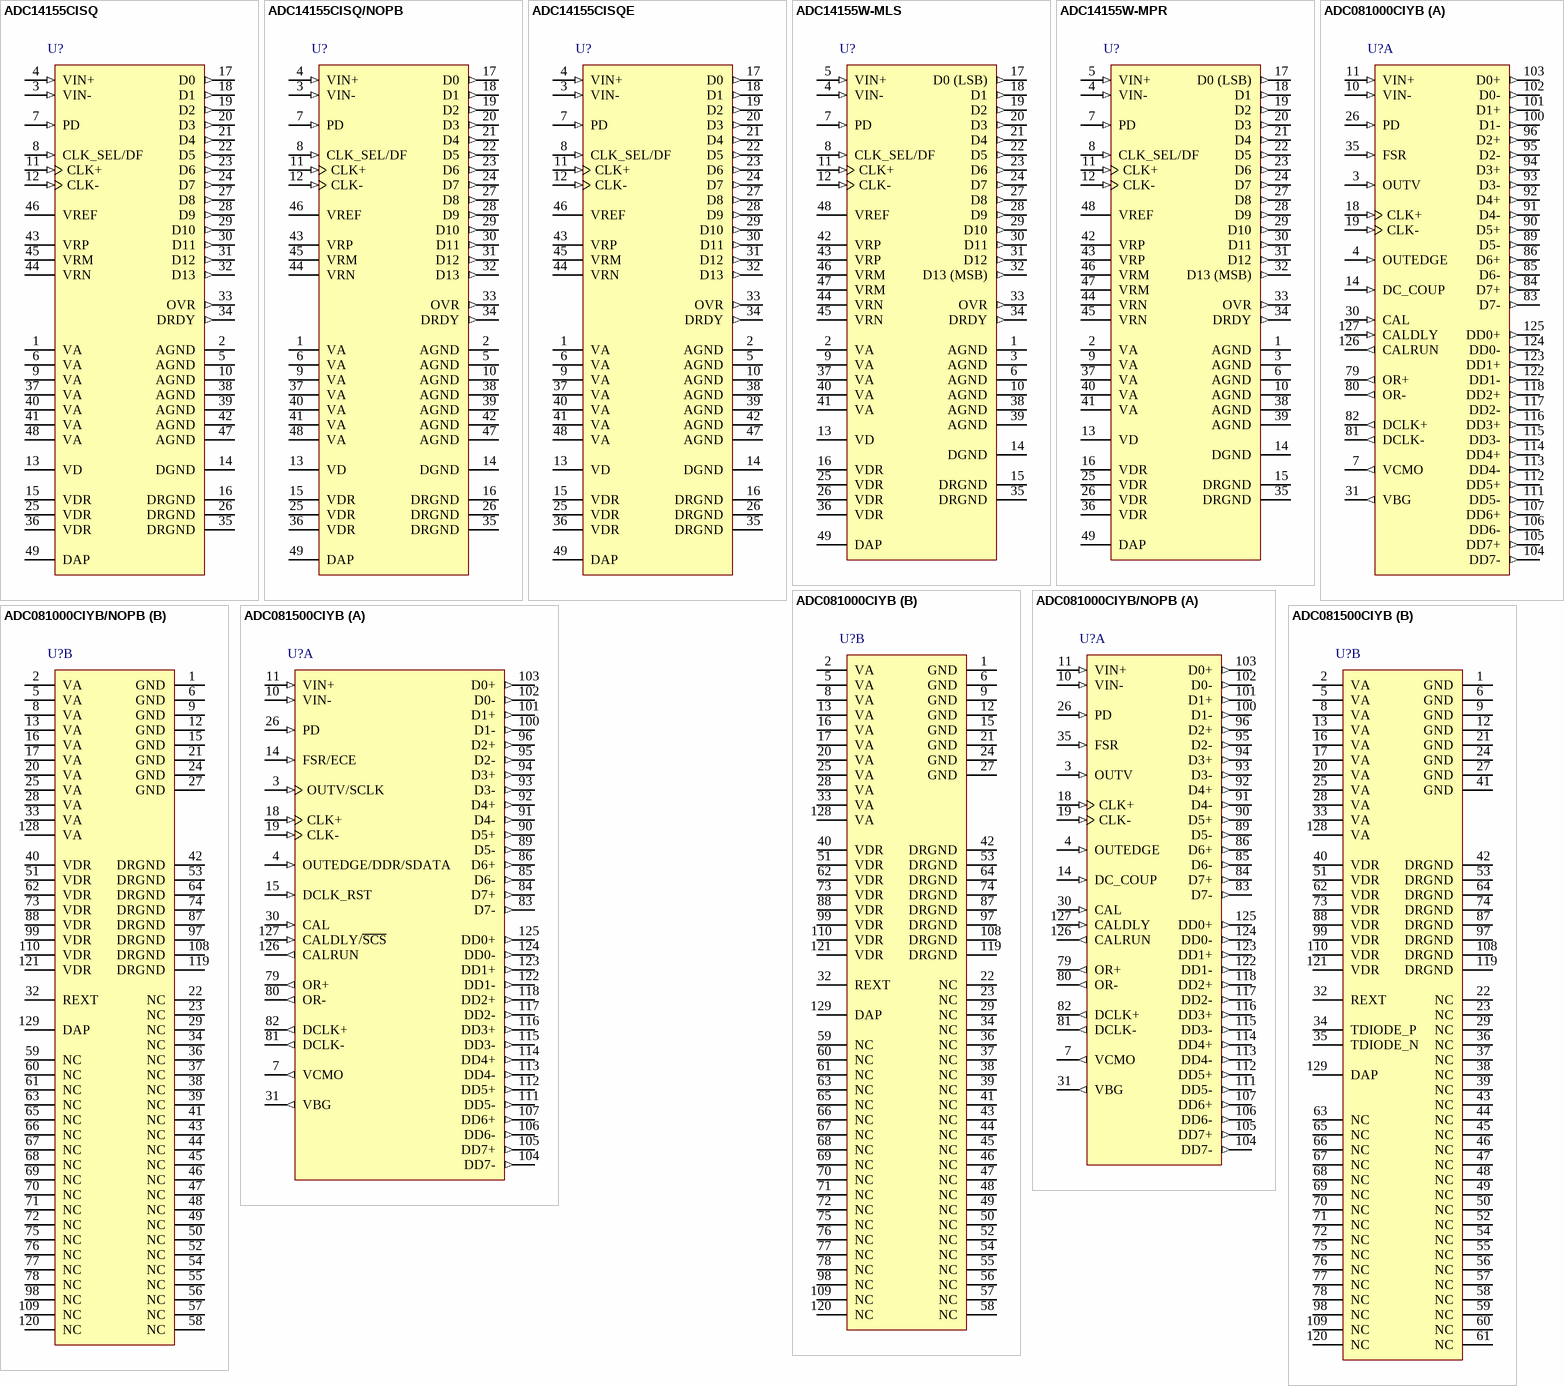
[diagram p34: symbols ADC14155CISQ to ADC081500CIYB]

## ADC14155CISQ
designator U?
14-Bit, 155 MSPS, 1.1 GHz Bandwidth A/D Converter, 49-pin LLP; PartNumber: ADC14155CISQ; Manufacturer: National Semiconductor; PackageTopMarking: NS*UZXYTTE#*14155SQ; PowerWise: Y; CompType: ADC IC; Published: 4-Dec-2008; DatasheetVersion: Apr-2009; PackageVersion: revB, May-2009; PackageReference: SQA48A; Publisher: Altium Limited; PackageDescription: LLP, Plastic, Quad, 7 x 7 x 0.8mm Body, 48 Lead, 0.5mm Pitch, No Pullback; RoHS: N; PinCount: 48; Code_JEDEC: MO-220-WKKD-2; ComponentLink1Description: ADC14155 Datasheet; ComponentLink1URL: http://www.national.com/ds/AD/ADC14155.pdf; ComponentLink2Description: ADC14155 Web Page; ComponentLink2URL: http://www.national.com/pf/AD/ADC14155.html; ComponentLink3Description: SQA48A Package Page; ComponentLink3URL: http://www.national.com/packaging/folders/sqa48a.html
footprint SQA48A (QFN, 48-Leads, Body 7x7mm, Pitch 0.5mm, NSC Recommended)
pins: 1 VA (power), 2 AGND (power), 3 VIN- (in), 4 VIN+ (in), 5 AGND (power), 6 VA (power), 7 PD (in), 8 CLK_SEL/DF (in), 9 VA (power), 10 AGND (power), 11 CLK+ (in), 12 CLK- (in), 13 VD (power), 14 DGND (power), 15 VDR (power), 16 DRGND (power), 17 D0 (out), 18 D1 (out), 19 D2 (out), 20 D3 (out), 21 D4 (out), 22 D5 (out), 23 D6 (out), 24 D7 (out), 25 VDR (power), 26 DRGND (power), 27 D8 (out), 28 D9 (out), 29 D10 (out), 30 D11 (out), 31 D12 (out), 32 D13 (out), 33 OVR (out), 34 DRDY (out), 35 DRGND (power), 36 VDR (power), 37 VA (power), 38 AGND (power), 39 AGND (power), 40 VA (power), 41 VA (power), 42 AGND (power), 43 VRP, 44 VRN, 45 VRM, 46 VREF (power), 47 AGND (power), 48 VA (power), 49 DAP (power)

## ADC14155CISQ/NOPB
designator U?
14-Bit, 155 MSPS, 1.1 GHz Bandwidth A/D Converter, 48-pin LLP, Pb-Free; PartNumber: ADC14155CISQ/NOPB; Manufacturer: National Semiconductor; PackageTopMarking: NS*UZXYTTE#*14155SQ; PowerWise: Y; CompType: ADC IC; Published: 1-Mar-2010; DatasheetVersion: Apr-2009; PackageVersion: revB, May-2009; PackageReference: SQA48A; Publisher: Altium Limited; PackageDescription: LLP, Plastic, Quad, 7 x 7 x 0.8mm Body, 48 Lead, 0.5mm Pitch, No Pullback; Supplier 1: Digi-Key; Supplier Part Number 1: ADC14155CISQTR-ND; Supplier 2: Digi-Key; Supplier Part Number 2: ADC14155CISQCT-ND; Supplier 3: Digi-Key; Supplier Part Number 3: ADC14155CISQDKR-ND; RoHS: Y; PinCount: 48; Code_JEDEC: MO-220-WKKD-2; ComponentLink1Description: ADC14155 Datasheet; ComponentLink1URL: http://www.national.com/ds/AD/ADC14155.pdf; ComponentLink2Description: ADC14155 Web Page; ComponentLink2URL: http://www.national.com/pf/AD/ADC14155.html; ComponentLink3Description: SQA48A Package Page; ComponentLink3URL: http://www.national.com/packaging/folders/sqa48a.html
footprint SQA48A (QFN, 48-Leads, Body 7x7mm, Pitch 0.5mm, NSC Recommended)
pins: 1 VA (power), 2 AGND (power), 3 VIN- (in), 4 VIN+ (in), 5 AGND (power), 6 VA (power), 7 PD (in), 8 CLK_SEL/DF (in), 9 VA (power), 10 AGND (power), 11 CLK+ (in), 12 CLK- (in), 13 VD (power), 14 DGND (power), 15 VDR (power), 16 DRGND (power), 17 D0 (out), 18 D1 (out), 19 D2 (out), 20 D3 (out), 21 D4 (out), 22 D5 (out), 23 D6 (out), 24 D7 (out), 25 VDR (power), 26 DRGND (power), 27 D8 (out), 28 D9 (out), 29 D10 (out), 30 D11 (out), 31 D12 (out), 32 D13 (out), 33 OVR (out), 34 DRDY (out), 35 DRGND (power), 36 VDR (power), 37 VA (power), 38 AGND (power), 39 AGND (power), 40 VA (power), 41 VA (power), 42 AGND (power), 43 VRP, 44 VRN, 45 VRM, 46 VREF (power), 47 AGND (power), 48 VA (power), 49 DAP (power)

## ADC14155CISQE
designator U?
14-Bit, 155 MSPS, 1.1 GHz Bandwidth A/D Converter, 49-pin LLP; PartNumber: ADC14155CISQE; Manufacturer: National Semiconductor; PackageTopMarking: NS*UZXYTT*14155SQE; PowerWise: Y; CompType: ADC IC; Published: 4-Dec-2008; DatasheetVersion: Apr-2009; PackageVersion: revB, May-2009; PackageReference: SQA48A; Publisher: Altium Limited; PackageDescription: LLP, Plastic, Quad, 7 x 7 x 0.8mm Body, 48 Lead, 0.5mm Pitch, No Pullback; RoHS: N; PinCount: 48; Code_JEDEC: MO-220-WKKD-2; ComponentLink1Description: ADC14155 Datasheet; ComponentLink1URL: http://www.national.com/ds/AD/ADC14155.pdf; ComponentLink2Description: ADC14155 Web Page; ComponentLink2URL: http://www.national.com/pf/AD/ADC14155.html; ComponentLink3Description: SQA48A Package Page; ComponentLink3URL: http://www.national.com/packaging/folders/sqa48a.html
footprint SQA48A (QFN, 48-Leads, Body 7x7mm, Pitch 0.5mm, NSC Recommended)
pins: 1 VA (power), 2 AGND (power), 3 VIN- (in), 4 VIN+ (in), 5 AGND (power), 6 VA (power), 7 PD (in), 8 CLK_SEL/DF (in), 9 VA (power), 10 AGND (power), 11 CLK+ (in), 12 CLK- (in), 13 VD (power), 14 DGND (power), 15 VDR (power), 16 DRGND (power), 17 D0 (out), 18 D1 (out), 19 D2 (out), 20 D3 (out), 21 D4 (out), 22 D5 (out), 23 D6 (out), 24 D7 (out), 25 VDR (power), 26 DRGND (power), 27 D8 (out), 28 D9 (out), 29 D10 (out), 30 D11 (out), 31 D12 (out), 32 D13 (out), 33 OVR (out), 34 DRDY (out), 35 DRGND (power), 36 VDR (power), 37 VA (power), 38 AGND (power), 39 AGND (power), 40 VA (power), 41 VA (power), 42 AGND (power), 43 VRP, 44 VRN, 45 VRM, 46 VREF (power), 47 AGND (power), 48 VA (power), 49 DAP (power)

## ADC14155W-MLS
designator U?
14-Bit, 155 MSPS, 1.1 GHz Bandwidth A/D Converter, 49-pin CQFP; PartNumber: ADC14155W-MLS; Manufacturer: National Semiconductor; PackageTopMarking: NSZSSXXYYA*ADC14155W*-MLS; PowerWise: N; CompType: ADC IC; High-Reliability: Y; Published: 29-May-2009; LatestRevisionDate: 01-Oct-2010; LatestRevisionNote: Updated datasheet to version Jul-2010.; DatasheetVersion: Jul-2010; PackageVersion: revB, Apr-2007; PackageReference: EL48A; Publisher: Altium Limited; PackageDescription: CQFP, 11.5 x 11.5 x 2.64mm, 48 Lead, 0.635mm Pitch; RoHS: N; PinCount: 48; ComponentLink1Description: ADC14155 Datasheet; ComponentLink1URL: http://www.national.com/ds/AD/ADC14155QML.pdf; ComponentLink2Description: ADC14155 Web Page; ComponentLink2URL: http://www.national.com/pf/AD/ADC14155.html; ComponentLink3Description: EL48A Package Page; ComponentLink3URL: http://www.national.com/packaging/folders/el48a.html
footprint EL48A_N (CQFP, 48-Leads, Body 11.5x11.5mm; Pitch 0.635mm, Gullwing Leadform, Exposed Pad, IPC Medium Density)
footprint EL48A_L (CQFP, 48-Leads, Body 11.5x11.5mm; Pitch 0.635mm, Gullwing Leadform, Exposed Pad, IPC High Density)
footprint EL48A_M (CQFP, 48-Leads, Body 11.5x11.5mm; Pitch 0.635mm, Gullwing Leadform, Exposed Pad, IPC Low Density)
pins: 1 AGND (power), 2 VA (power), 3 AGND (power), 4 VIN- (in), 5 VIN+ (in), 6 AGND (power), 7 PD (in), 8 CLK_SEL/DF (in), 9 VA (power), 10 AGND (power), 11 CLK+ (in), 12 CLK- (in), 13 VD (power), 14 DGND (power), 15 DRGND (power), 16 VDR (power), 17 D0 (LSB) (out), 18 D1 (out), 19 D2 (out), 20 D3 (out), 21 D4 (out), 22 D5 (out), 23 D6 (out), 24 D7 (out), 25 VDR (power), 26 VDR (power), 27 D8 (out), 28 D9 (out), 29 D10 (out), 30 D11 (out), 31 D12 (out), 32 D13 (MSB) (out), 33 OVR (out), 34 DRDY (out), 35 DRGND (power), 36 VDR (power), 37 VA (power), 38 AGND (power), 39 AGND (power), 40 VA (power), 41 VA (power), 42 VRP (power), 43 VRP, 44 VRN, 45 VRN, 46 VRM (power), 47 VRM (power), 48 VREF (power), 49 DAP (power)

## ADC14155W-MPR
designator U?
14-Bit, 155 MSPS, 1.1 GHz Bandwidth A/D Converter, 48 pin CQFP; PartNumber: ADC14155W-MPR; Manufacturer: National Semiconductor; PackageTopMarking: NSZSSXXYYA*ADC14155W*-MPR ES; PowerWise: N; CompType: ADC IC; High-Reliability: Y; Published: 16-Nov-2010; DatasheetVersion: Jul-2010; PackageVersion: revB, Apr-2007; PackageReference: EL48A; Publisher: Altium Limited; PackageDescription: CQFP, 11.5 x 11.5 x 2.64mm, 48 Lead, 0.635mm Pitch; RoHS: N; PinCount: 48; ComponentLink1Description: ADC14155 Datasheet; ComponentLink1URL: http://www.national.com/ds/AD/ADC14155QML.pdf; ComponentLink2Description: ADC14155 Web Page; ComponentLink2URL: http://www.national.com/pf/AD/ADC14155.html; ComponentLink3Description: EL48A Package Page; ComponentLink3URL: http://www.national.com/packaging/folders/el48a.html
footprint EL48A_N (CQFP, 48-Leads, Body 11.5x11.5mm; Pitch 0.635mm, Gullwing Leadform, Exposed Pad, IPC Medium Density)
footprint EL48A_L (CQFP, 48-Leads, Body 11.5x11.5mm; Pitch 0.635mm, Gullwing Leadform, Exposed Pad, IPC High Density)
footprint EL48A_M (CQFP, 48-Leads, Body 11.5x11.5mm; Pitch 0.635mm, Gullwing Leadform, Exposed Pad, IPC Low Density)
pins: 1 AGND (power), 2 VA (power), 3 AGND (power), 4 VIN- (in), 5 VIN+ (in), 6 AGND (power), 7 PD (in), 8 CLK_SEL/DF (in), 9 VA (power), 10 AGND (power), 11 CLK+ (in), 12 CLK- (in), 13 VD (power), 14 DGND (power), 15 DRGND (power), 16 VDR (power), 17 D0 (LSB) (out), 18 D1 (out), 19 D2 (out), 20 D3 (out), 21 D4 (out), 22 D5 (out), 23 D6 (out), 24 D7 (out), 25 VDR (power), 26 VDR (power), 27 D8 (out), 28 D9 (out), 29 D10 (out), 30 D11 (out), 31 D12 (out), 32 D13 (MSB) (out), 33 OVR (out), 34 DRDY (out), 35 DRGND (power), 36 VDR (power), 37 VA (power), 38 AGND (power), 39 AGND (power), 40 VA (power), 41 VA (power), 42 VRP (power), 43 VRP, 44 VRN, 45 VRN, 46 VRM (power), 47 VRM (power), 48 VREF (power), 49 DAP (power)

## ADC081000CIYB
designator U?
High Performance, Low Power 8-Bit, 1 GSPS A/D Converter, 129-pin LQFP-EP; PartNumber: ADC081000CIYB; Manufacturer: National Semiconductor; PackageTopMarking: NSUZXYYTTE#*ADC081000*CIYB; PowerWise: Y; CompType: ADC IC; Published: 4-Dec-2008; DatasheetVersion: Apr-2009; PackageVersion: revB, Aug-2006; PackageReference: VNX128A; Publisher: Altium Limited; PackageDescription: LQFP, 20 x 20 x 1.4mm, 128 Lead, 0.5mm Pitch, Exposed Pad; RoHS: N; PinCount: 128; Code_JEDEC: MS-026-BFB; ComponentLink1Description: ADC081000 Datasheet; ComponentLink1URL: http://www.national.com/ds/AD/ADC081000.pdf; ComponentLink2Description: ADC081000 Web Page; ComponentLink2URL: http://www.national.com/pf/AD/ADC081000.html; ComponentLink3Description: VNX128A Package Page; ComponentLink3URL: http://www.national.com/packaging/folders/vnx128a.html
footprint VNX128A_N (Thin QFP, 128-Leads, Body 20x20mm, Pitch 0.5mm, Exposed Pad, IPC Medium Density)
footprint VNX128A_L (Thin QFP, 128-Leads, Body 20x20mm, Pitch 0.5mm, Exposed Pad, IPC High Density)
footprint VNX128A_M (Thin QFP, 128-Leads, Body 20x20mm, Pitch 0.5mm, Exposed Pad, IPC Low Density)
part A pins: 3 OUTV (in), 4 OUTEDGE (in), 7 VCMO (out), 10 VIN- (in), 11 VIN+ (in), 14 DC_COUP (in), 18 CLK+ (in), 19 CLK- (in), 26 PD (in), 30 CAL (in), 31 VBG (out), 35 FSR (in), 79 OR+ (out), 80 OR- (out), 81 DCLK- (out), 82 DCLK+ (out), 83 D7- (out), 84 D7+ (out), 85 D6- (out), 86 D6+ (out), 89 D5- (out), 90 D5+ (out), 91 D4- (out), 92 D4+ (out), 93 D3- (out), 94 D3+ (out), 95 D2- (out), 96 D2+ (out), 100 D1- (out), 101 D1+ (out), 102 D0- (out), 103 D0+ (out), 104 DD7- (out), 105 DD7+ (out), 106 DD6- (out), 107 DD6+ (out), 111 DD5- (out), 112 DD5+ (out), 113 DD4- (out), 114 DD4+ (out), 115 DD3- (out), 116 DD3+ (out), 117 DD2- (out), 118 DD2+ (out), 122 DD1- (out), 123 DD1+ (out), 124 DD0- (out), 125 DD0+ (out), 126 CALRUN (out), 127 CALDLY (in)
part B pins: 1 GND (power), 2 VA (power), 5 VA (power), 6 GND (power), 8 VA (power), 9 GND (power), 12 GND (power), 13 VA (power), 15 GND (power), 16 VA (power), 17 VA (power), 20 VA (power), 21 GND (power), 22 NC, 23 NC, 24 GND (power), 25 VA (power), 27 GND (power), 28 VA (power), 29 NC, 32 REXT, 33 VA (power), 34 NC, 36 NC, 37 NC, 38 NC, 39 NC, 40 VDR (power), 41 NC, 42 DRGND (power), 43 NC, 44 NC, 45 NC, 46 NC, 47 NC, 48 NC, 49 NC, 50 NC, 51 VDR (power), 52 NC, 53 DRGND (power), 54 NC, 55 NC, 56 NC, 57 NC, 58 NC, 59 NC, 60 NC, 61 NC, 62 VDR (power), 63 NC, 64 DRGND (power), 65 NC, 66 NC, 67 NC, 68 NC, 69 NC, 70 NC, 71 NC, 72 NC, 73 VDR (power), 74 DRGND (power), 75 NC, 76 NC, 77 NC, 78 NC, 87 DRGND (power), 88 VDR (power), 97 DRGND (power), 98 NC, 99 VDR (power), 108 DRGND (power), 109 NC, 110 VDR (power), 119 DRGND (power), 120 NC, 121 VDR (power), 128 VA (power), 129 DAP (power)

## ADC081000CIYB/NOPB
designator U?
High Performance, Low Power 8-Bit, 1 GSPS A/D Converter, 128-pin LQFP-EP, Pb-Free; PartNumber: ADC081000CIYB/NOPB; Manufacturer: National Semiconductor; PackageTopMarking: NSUZXYYTTE#*ADC081000*CIYB; PowerWise: Y; CompType: ADC IC; Published: 1-Mar-2010; DatasheetVersion: Apr-2009; PackageVersion: revB, Aug-2006; PackageReference: VNX128A; Publisher: Altium Limited; PackageDescription: LQFP, 20 x 20 x 1.4mm, 128 Lead, 0.5mm Pitch, Exposed Pad; Supplier 1: Digi-Key; Supplier Part Number 1: ADC081000CIYB-ND; RoHS: Y; PinCount: 128; Code_JEDEC: MS-026-BFB; ComponentLink1Description: ADC081000 Datasheet; ComponentLink1URL: http://www.national.com/ds/AD/ADC081000.pdf; ComponentLink2Description: ADC081000 Web Page; ComponentLink2URL: http://www.national.com/pf/AD/ADC081000.html; ComponentLink3Description: VNX128A Package Page; ComponentLink3URL: http://www.national.com/packaging/folders/vnx128a.html
footprint VNX128A_N (Thin QFP, 128-Leads, Body 20x20mm, Pitch 0.5mm, Exposed Pad, IPC Medium Density)
footprint VNX128A_L (Thin QFP, 128-Leads, Body 20x20mm, Pitch 0.5mm, Exposed Pad, IPC High Density)
footprint VNX128A_M (Thin QFP, 128-Leads, Body 20x20mm, Pitch 0.5mm, Exposed Pad, IPC Low Density)
part A pins: 3 OUTV (in), 4 OUTEDGE (in), 7 VCMO (out), 10 VIN- (in), 11 VIN+ (in), 14 DC_COUP (in), 18 CLK+ (in), 19 CLK- (in), 26 PD (in), 30 CAL (in), 31 VBG (out), 35 FSR (in), 79 OR+ (out), 80 OR- (out), 81 DCLK- (out), 82 DCLK+ (out), 83 D7- (out), 84 D7+ (out), 85 D6- (out), 86 D6+ (out), 89 D5- (out), 90 D5+ (out), 91 D4- (out), 92 D4+ (out), 93 D3- (out), 94 D3+ (out), 95 D2- (out), 96 D2+ (out), 100 D1- (out), 101 D1+ (out), 102 D0- (out), 103 D0+ (out), 104 DD7- (out), 105 DD7+ (out), 106 DD6- (out), 107 DD6+ (out), 111 DD5- (out), 112 DD5+ (out), 113 DD4- (out), 114 DD4+ (out), 115 DD3- (out), 116 DD3+ (out), 117 DD2- (out), 118 DD2+ (out), 122 DD1- (out), 123 DD1+ (out), 124 DD0- (out), 125 DD0+ (out), 126 CALRUN (out), 127 CALDLY (in)
part B pins: 1 GND (power), 2 VA (power), 5 VA (power), 6 GND (power), 8 VA (power), 9 GND (power), 12 GND (power), 13 VA (power), 15 GND (power), 16 VA (power), 17 VA (power), 20 VA (power), 21 GND (power), 22 NC, 23 NC, 24 GND (power), 25 VA (power), 27 GND (power), 28 VA (power), 29 NC, 32 REXT, 33 VA (power), 34 NC, 36 NC, 37 NC, 38 NC, 39 NC, 40 VDR (power), 41 NC, 42 DRGND (power), 43 NC, 44 NC, 45 NC, 46 NC, 47 NC, 48 NC, 49 NC, 50 NC, 51 VDR (power), 52 NC, 53 DRGND (power), 54 NC, 55 NC, 56 NC, 57 NC, 58 NC, 59 NC, 60 NC, 61 NC, 62 VDR (power), 63 NC, 64 DRGND (power), 65 NC, 66 NC, 67 NC, 68 NC, 69 NC, 70 NC, 71 NC, 72 NC, 73 VDR (power), 74 DRGND (power), 75 NC, 76 NC, 77 NC, 78 NC, 87 DRGND (power), 88 VDR (power), 97 DRGND (power), 98 NC, 99 VDR (power), 108 DRGND (power), 109 NC, 110 VDR (power), 119 DRGND (power), 120 NC, 121 VDR (power), 128 VA (power), 129 DAP (power)